# Altium schematic symbol library LT2611UXD.Schlib: 1 symbol
Pins are listed as number, name and electrical type; pins without a type are passive.

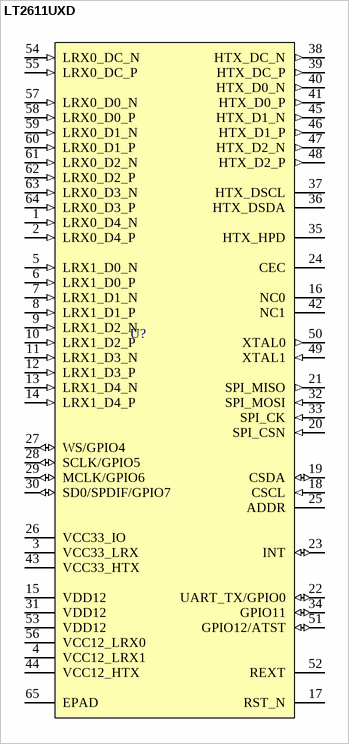
[diagram p0: symbol LT2611UXD]

## LT2611UXD
designator U?
Dual-Port LVDS to HDMI2.0 Converter
pins: 1 LRX0_D4_N (in), 2 LRX0_D4_P (in), 3 VCC33_LRX (power), 4 VCC12_LRX1 (power), 5 LRX1_D0_N (in), 6 LRX1_D0_P (in), 7 LRX1_D1_N (in), 8 LRX1_D1_P (in), 9 LRX1_D2_N (in), 10 LRX1_D2_P (in), 11 LRX1_D3_N (in), 12 LRX1_D3_P (in), 13 LRX1_D4_N (in), 14 LRX1_D4_P (in), 15 VDD12 (power), 16 NC0, 17 RST_N, 18 CSCL (in), 19 CSDA (io), 20 SPI_CSN (in), 21 SPI_MISO (out), 22 UART_TX/GPIO0 (io), 23 INT (io), 24 CEC, 25 ADDR, 26 VCC33_IO (power), 27 WS/GPIO4 (io), 28 SCLK/GPIO5 (io), 29 MCLK/GPIO6 (io), 30 SD0/SPDIF/GPIO7 (io), 31 VDD12 (power), 32 SPI_MOSI (in), 33 SPI_CK (in), 34 GPIO11 (io), 35 HTX_HPD, 36 HTX_DSDA, 37 HTX_DSCL, 38 HTX_DC_N (out), 39 HTX_DC_P (out), 40 HTX_D0_N (out), 41 HTX_D0_P (out), 42 NC1, 43 VCC33_HTX (power), 44 VCC12_HTX (power), 45 HTX_D1_N (out), 46 HTX_D1_P (out), 47 HTX_D2_N (out), 48 HTX_D2_P (out), 49 XTAL1 (in), 50 XTAL0 (out), 51 GPIO12/ATST (io), 52 REXT, 53 VDD12 (power), 54 LRX0_DC_N (in), 55 LRX0_DC_P (in), 56 VCC12_LRX0 (power), 57 LRX0_D0_N (in), 58 LRX0_D0_P (in), 59 LRX0_D1_N (in), 60 LRX0_D1_P (in), 61 LRX0_D2_N (in), 62 LRX0_D2_P (in), 63 LRX0_D3_N (in), 64 LRX0_D3_P (in), 65 EPAD (power)